# EAGLE library part 74VHC4040FT (library ruark2)
Counter IC Binary Counter 1 Element 12 Bit Negative Edge 16-TSSOP
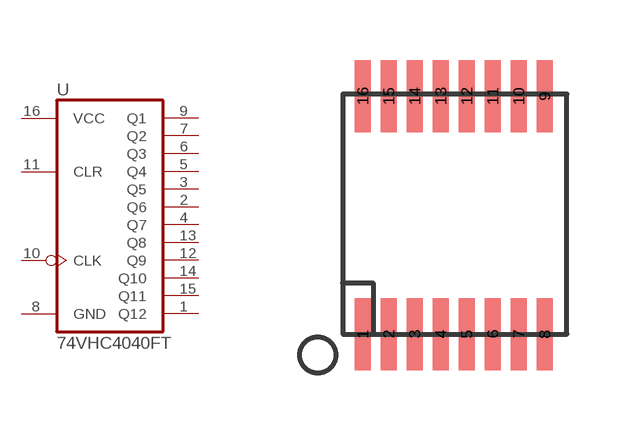
[diagram p171: symbol with the pads of TSSOP16; footprint TSSOP16]

Designator prefix U

## 74VHC4040FT (PARTNO: 74VHC4040FTCT-ND)  [TSSOP16]
1  Q12  out
2  Q6  out
3  Q5  out
4  Q7  out
5  Q4  out
6  Q3  out
7  Q2  out
8  GND
9  Q1  out
10  CLK  in
11  CLR  in
12  Q9  out
13  Q8  out
14  Q10  out
15  Q11  out
16  VCC

## Footprint TSSOP16 (pad centres in mm)
smd 0.4 x 1.8: 1 -2.275,-2.975; 2 -1.625,-2.975; 3 -0.975,-2.975; 4 -0.325,-2.975; 5 0.325,-2.975; 6 0.975,-2.975; 7 1.625,-2.975; 8 2.275,-2.975; 9 2.275,2.975; 10 1.625,2.975; 11 0.975,2.975; 12 0.325,2.975; 13 -0.325,2.975; 14 -0.975,2.975; 15 -1.625,2.975; 16 -2.275,2.975